# Altium integrated library myLib_v1.IntLib: 7 symbols
Pins are listed as number, name and electrical type; pins without a type are passive.

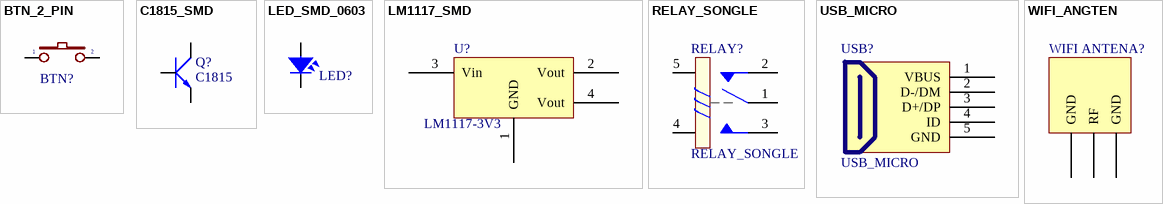
[diagram p0: symbols BTN_2_PIN to WIFI_ANGTEN]

## BTN_2_PIN
designator BTN?  (value not drawn)
Tactile Switch (6mm x 6mm Radial Models); Value: Switch tact 2 pins; URL: http://thegioiic.com/products/nut-nhan-2-chan-vuong-6x6x4mm
footprint buton smd (SW button 4pin, 250 x250 mil)
pins: 1, 2

## C1815_SMD
designator Q?, comment C1815
NPN 600mW, ECB; Value: C1815
pins: 1 B, 2 E, 3 C

## LED_SMD_0603
designator LED?, comment LED  (value not drawn)
LED Single colour Green and Red; Value: LED 3 ly Single Colour
footprint LED_SMD_0603_RED
footprint LED_SMD_0603_BLUE (C72041)
footprint LED_SMD_0603_YELLOW (C72038)
pins: 1, 2

## LM1117_SMD
designator U?, comment LM1117-3V3
footprint LM1117_SMD (SOT223, 4-Leads, Body 6.5x3.5mm, Pitch 2.3mm, Lead Span 7mm, IPC Medium Density)
pins: 1 GND, 2 Vout, 3 Vin, 4 Vout

## RELAY_SONGLE
designator RELAY?
RELAY SONGLE 5V
footprint RELAY_SONGLE
pins: 1, 2, 3, 4, 5

## USB_MICRO
designator USB?
USB MICRO
footprint USB_Micro
pins: 1 VBUS, 2 D-/DM, 3 D+/DP, 4 ID, 5 GND

## WIFI_ANGTEN
designator WIFI ANTENA?  (value not drawn)
RF ANGTEN; Designed by: VanDungEvn; Value: CD4017
footprint ANTENA_SMA (Connector; Header; 2 Position)
pins: 1 GND, 2 RF, 3 GND